# Altium footprint library functional-ic.PcbLib: 1 footprints
Each footprint in its own frame and in the unit in brackets; x right, y up, seen from the top. Pads: shape width x height; smd on the part's side, far side on the other; paste and mask are expansions set on the pad; w line width, h text height; cw(c..) or ccw(c..) is an arc to the next point about the centre after c.
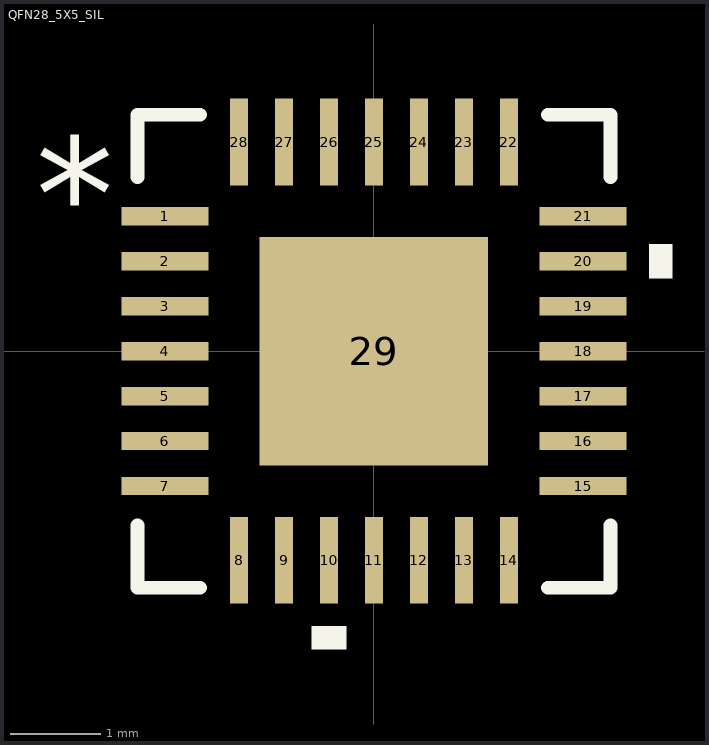
[diagram p0: the footprint, top view; thin cyan lines are the x and y axes]

## QFN28_5X5_SIL [mil]
pads (29):
  rect 38x8 smd: 1(-91.5,59.05) 2(-91.5,39.37) 3(-91.5,19.68) 4(-91.5,0) 5(-91.5,-19.68) 6(-91.5,-39.37) 7(-91.5,-59.06) 15(91.5,-59.06) 16(91.5,-39.37) 17(91.5,-19.68) 18(91.5,0) 19(91.5,19.68) 20(91.5,39.37) 21(91.5,59.06)
  rect 8x38 smd: 8(-59.06,-91.5) 9(-39.37,-91.5) 10(-19.68,-91.5) 11(0,-91.5) 12(19.68,-91.5) 13(39.37,-91.5) 14(59.06,-91.5) 22(59.06,91.5) 23(39.37,91.5) 24(19.68,91.5) 25(0,91.5) 26(-19.68,91.5) 27(-39.37,91.5) 28(-59.06,91.5)
  rect 100x100 smd paste-65.5 mask+0: 29(0,0)
Top Overlay:
  region: 120.5,46.87 130.5,46.87 130.5,31.87 120.5,31.87
  region: -12.19,-120.5 -27.18,-120.5 -27.18,-130.5 -12.19,-130.5
  lines w6: -103.5,-76.16 -103.5,-103.5 -76.16,-103.5 ; -103.5,76.16 -103.5,103.5 -76.16,103.5 ; 76.16,-103.5 103.5,-103.5 103.5,-76.16 ; 76.16,103.5 103.5,103.5 103.5,76.16
  text "*" at -148,43.9 h50
Top Paste:
  region: 50,-3.94 3.94,-3.94 3.94,-50 50,-50
  region: 50,50 3.94,50 3.94,3.94 50,3.94
  region: -3.94,-3.94 -50,-3.94 -50,-50 -3.94,-50
  region: -3.94,50 -50,50 -50,3.94 -3.94,3.94
3D body "QFN28_5X5_SIL.step": height 37.09, standoff 0, extent -98,-98 99,99
3D body: height 10, standoff 0, extent 0,0 10,10